# Altium schematic symbol library 2T3117A.Schlib: 1 symbol
Pins are listed as number, name and electrical type; pins without a type are passive.

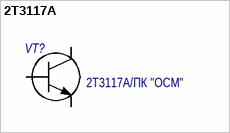
[diagram p0: symbol 2T3117A]

## 2T3117A
designator VT?  Наименование: 2Т3117А/ПК "ОСМ"  (hidden comment: 2T3117A)
Кремниевый биполярный / эпитаксиально-планарный / n-p-n транзистор; Назначение: Биполярный транзистор; Потребление, Вт: 0,0; ComponentLink1Description: DataSheet; ComponentLink1URL: https://www.integral.by/sites/default/files/pdf/2t3117.pdf
footprint TO-18
pins: 1 EMITTER, 2 BASE, 3 COLLECTOR